# Altium schematic symbol library Arkx.SchLib: 534 symbols (part 5 of 5)
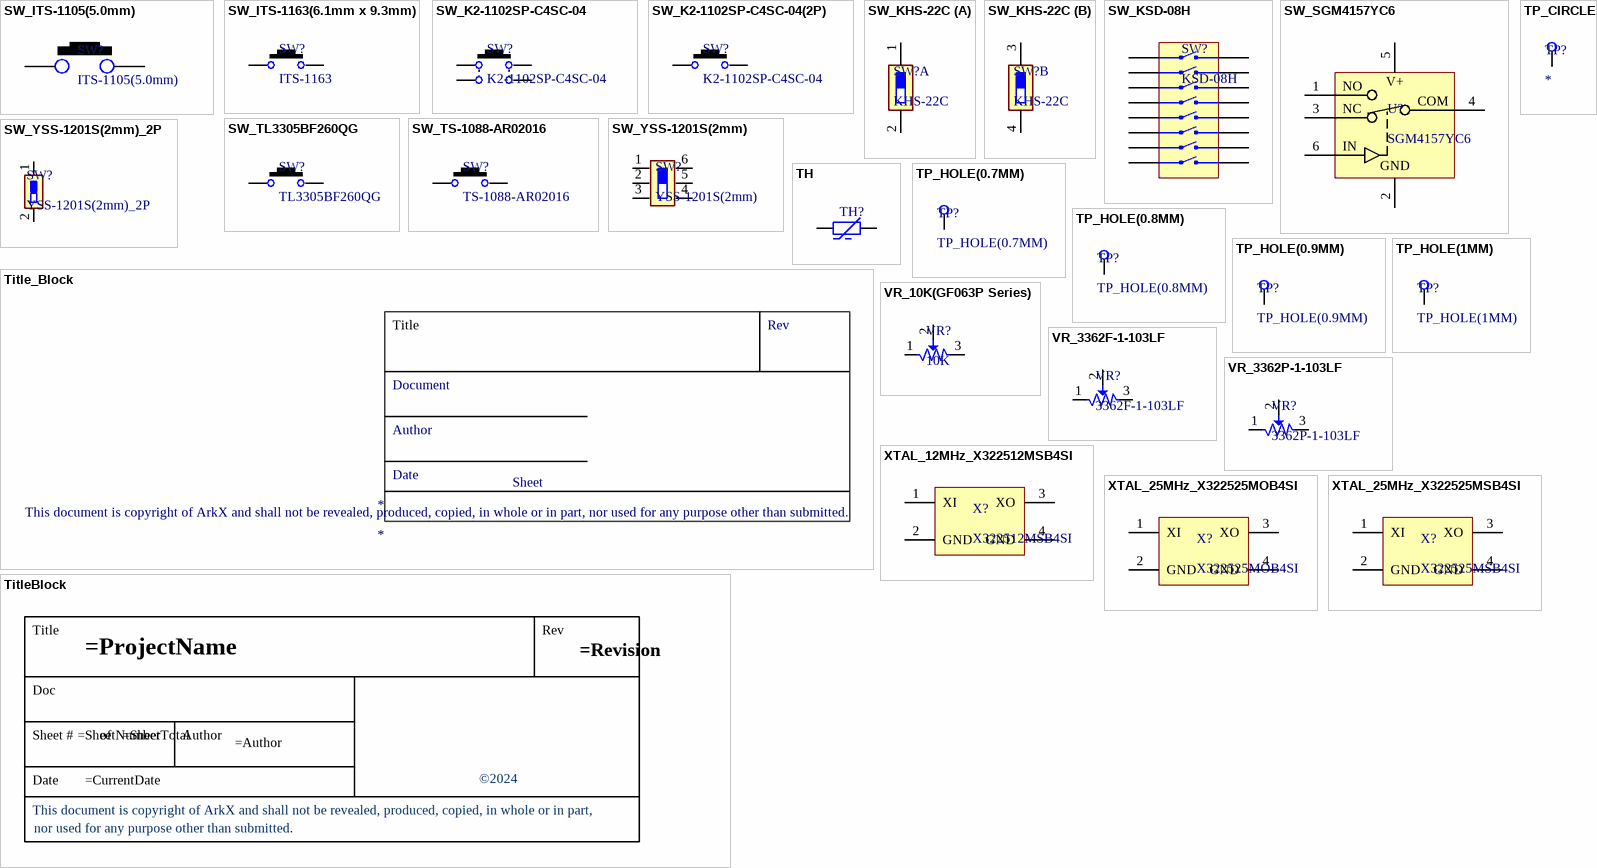
[diagram p29: symbols SW_ITS-1105(5.0mm) to XTAL_25MHz_X322525MSB4SI]

## SW_K2-1102SP-C4SC-04(2P)
designator SW?, comment K2-1102SP-C4SC-04
-25℃~+85℃ 6mm 5mm Round Button 50mA Brick nogging 6mm SPST 100MΩ 100000 250gf@±30gf 12V SMD  Tactile Switches ROHS; LCSC Part #: C127509; JLCPCB Part Type: Extended Part
footprint SW K2-1102SP-C4SC-04 (-25℃~+85℃ 6mm 5mm Round Button 50mA Brick nogging 6mm SPST 100MΩ 100000 250gf@±30gf 12V SMD  Tactile Switches ROHS)
pins: 1, 3

## SW_KHS-22C
designator SW?, comment KHS-22C
SMD  DIP Switches ROHS
part A pins: 1, 2
part B pins: 3, 4

## SW_KSD-08H
designator SW?, comment KSD-08H
OTAX / KSD-**H / 8PIN / Slide type / Through Hole / 10mA @ 5VDC
pins: 1 A, 2 A, 3 A, 4 A, 5 A, 6 A, 7 A, 8 A, 9 B, 10 B, 11 B, 12 B, 13 B, 14 B, 15 B, 16 B

## SW_SGM4157YC6
designator U?, comment SGM4157YC6
Single low on-resistance (0.8Ω), / fast single-pole/double-throw (SPDT) CMOS switch; LCSC Part #: C124895; JLCPCB Part Type: Extended Part
footprint SC-70-6 (SC70, 6-Leads, Body 2.00x2.10mm, Pitch 0.65mm, IPC Medium Density)
pins: 1 NO, 2 GND, 3 NC, 4 COM, 5 V+, 6 IN

## SW_TL3305BF260QG
designator SW?, comment TL3305BF260QG
SWITCH TACTILE SPST-NO 50MA 12V; Supplier 1: Mouser; Supplier 2: Digi-Key; Supplier Part Number 1: 612-TL3305BF260QG; Supplier Part Number 2: EG5354CT-ND; LCSC Part #: C2886903; JLCPCB Part Type: Extended Part
footprint SW TL3305AF260QG (SWITCH TACTILE SPST-NO 50MA 12V)
pins: 1, 3

## SW_TS-1088-AR02016
designator SW?, comment TS-1088-AR02016
NO 50mA 100MΩ 100000 Times 12V 160gf@±50gf Brick nogging SPST SMD  Tactile Switches ROHS; LCSC Part #: C720477; JLCPCB Part Type: Extended Part
footprint SW_TS-1088-AR02016 (NO 50mA 100MΩ 100000 Times 12V 160gf@±50gf Brick nogging SPST SMD  Tactile Switches ROHS)
pins: 1, 2

## SW_YSS-1201S(2mm)
designator SW?, comment YSS-1201S(2mm)
SMD Slide Switch. / Rating : DC 6V/0.3A / Travel : 2MM
footprint SW YSS-1201S-2mm (SMD Type Slide Switch)
pins: 1, 2, 3, 4, 5, 6

## SW_YSS-1201S(2mm)_2P
designator SW?, comment YSS-1201S(2mm)_2P
SMD Slide Switch. / Rating : DC 6V/0.3A / Travel : 2MM
footprint SW YSS-1201S-2mm (SMD Type Slide Switch)
pins: 1, 2

## TH
designator TH?
SMT Resistor
pins: 1, 2

## Title_Block
designator *  (graphical)
text: Title; Rev; Document; Author; Date; Sheet; This document is copyright of ArkX and shall not be revealed, produced, copied, in whole or in part, nor used for any purpose other than submitted.

## TitleBlock
designator *  (value not drawn)
text: Title; Rev; Doc; Sheet #; of; Author; Date; ©2024; This document is copyright of ArkX and shall not be revealed, produced, copied, in whole or in part,; nor used for any purpose other than submitted.

## TP_CIRCLE
designator TP?
footprint TP Circle (Test Point Circle)
pins: 1 TP

## TP_HOLE(0.7MM)
designator TP?
footprint TP_HOLE(0.7MM)
pins: 1 TP

## TP_HOLE(0.8MM)
designator TP?
footprint TP_HOLE(0.8MM)
pins: 1 TP

## TP_HOLE(0.9MM)
designator TP?
footprint TP_HOLE(0.9MM)
pins: 1 TP

## TP_HOLE(1MM)
designator TP?
footprint TP_HOLE(1MM)
pins: 1 TP

## VR_10K(GF063P Series)
designator VR?, comment 10K
GF063P Series / 10K / Trimmer type Variable Resistor
pins: 1, 2, 3

## VR_3362F-1-103LF
designator VR?, comment 3362F-1-103LF
TRIMMER 10K OHM 0.5W PC PIN TOP
footprint VR 3362F-1-103LF (TRIMMER 10K OHM 0.5W PC PIN TOP)
pins: 1, 2, 3

## VR_3362P-1-103LF
designator VR?, comment 3362P-1-103LF
±10% ±100ppm/℃ 10kΩ Plugin  Variable Resistors/Potentiometers ROHS; LCSC Part #: C58159; JLCPCB Part Type: Extended Part
footprint VR_3362P-1-103LF (±10% ±100ppm/℃ 10kΩ Plugin  Variable Resistors/Potentiometers ROHS)
pins: 1, 2, 3

## XTAL_12MHz_X322512MSB4SI
designator X?, comment X322512MSB4SI
12MHz SMD Crystal Resonator 20pF ±10ppm ±30ppm -40℃~+85℃ SMD3225-4P  Crystals ROHS; LCSC Part #: C9002; JLCPCB Part Type: Basic Part
footprint OSC SMD_3.2x2.5 (SCTF) (SMD Oscillator_3.2x2.5 (SCTF))
pins: 1 XI, 2 GND, 3 XO, 4 GND

## XTAL_25MHz_X322525MOB4SI
designator X?, comment X322525MOB4SI
25MHz Surface Mount Crystal 12pF ±10ppm ±20ppm SMD3225-4P Crystals ROHS; LCSC Part #: C9006; JLCPCB Part Type: Basic Part
footprint OSC_SMD_3.2x2.5(YXC) (SMD Oscillator_3.2x2.5 (YXC))
pins: 1 XI, 2 GND, 3 XO, 4 GND

## XTAL_25MHz_X322525MSB4SI
designator X?, comment X322525MSB4SI
25MHz Surface Mount Crystal 20pF ±10ppm ±20ppm SMD3225-4P Crystals ROHS; LCSC Part #: C13740; JLCPCB Part Type: Extended Part
footprint OSC_SMD_3.2x2.5(YXC) (SMD Oscillator_3.2x2.5 (YXC))
pins: 1 XI, 2 GND, 3 XO, 4 GND